# Altium schematic symbol library LM66200DRLR.SchLib: 2 symbols
Pins are listed as number, name and electrical type; pins without a type are passive.

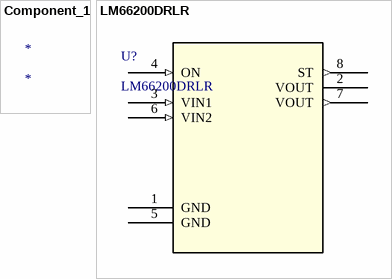
[diagram p0: symbols Component_1 to LM66200DRLR]

## Component_1
designator *

## LM66200DRLR
designator U?
No Description Available; Mfr_Name: Texas Instruments; Copyright: Copyright (C) 2023 Ultra Librarian. All rights reserved.; Manufacturer_Part_Number: LM66200DRLR; RefDes: RefDes; Type: DEV
footprint SOT-5X3_DRL_TEX
pins: 1 GND (power), 2 VOUT (power), 3 VIN1 (in), 4 ON (in), 5 GND (power), 6 VIN2 (in), 7 VOUT (out), 8 ST (out)